# Altium schematic symbol library 1070TR.SchLib: 1 symbol
Pins are listed as number, name and electrical type; pins without a type are passive.

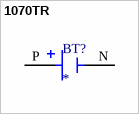
[diagram p0: symbol 1070TR]

## 1070TR
designator BT?
MP: 1070TR; Package: None; Availability: Unavailable; Value: *; Price: None; Supplier 1: Digikey; Supplier Part Number 1: 36-1070CT-ND
footprint KEYSTONE_1070TR
pins: N NEG, P POS